# Altium footprint library Christmas Keychain.PcbLib: 4 footprints
Each footprint in its own frame and in the unit in brackets; x right, y up, seen from the top. Pads: shape width x height; smd on the part's side, far side on the other; paste and mask are expansions set on the pad; w line width, h text height; cw(c..) or ccw(c..) is an arc to the next point about the centre after c.
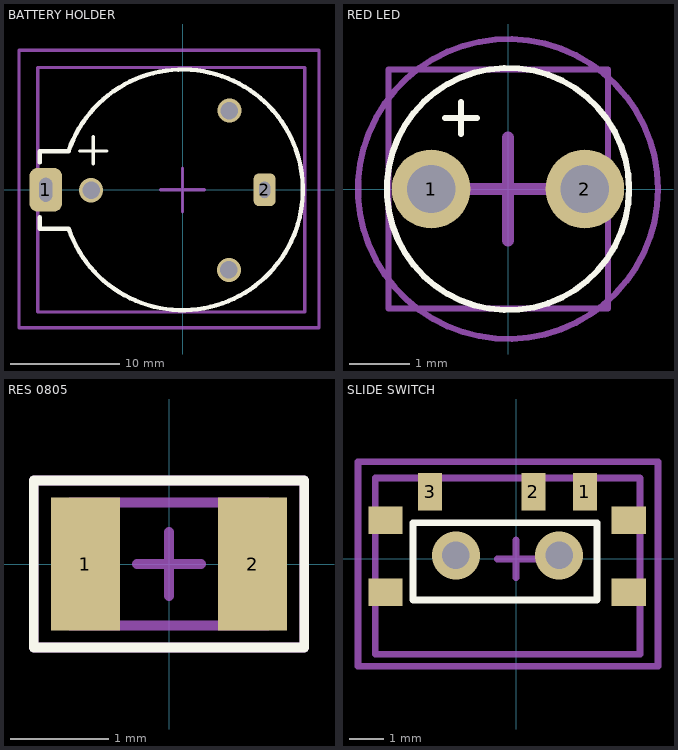
[diagram p0: the footprints below, top view; thin cyan lines are the x and y axes]

## BATTERY HOLDER [mm]
pads (2):
  rrect50% 3x4 hole 1.2 slot 2.2 at 90 deg: 1(-12.5,0)
  rrect50% 2x3 hole 1 slot 1.5 at 90 deg mask+0.102: 2(7.5,0)
via 4.239,-7.321 diameter 2.2 hole 1.6
via 4.275,7.25 diameter 2.2 hole 1.6
via -8.358,-0.037 diameter 2.2 hole 1.6
Top Overlay:
  lines w0.3: -9.4,3.55 -6.9,3.55 ; -8.175,2.375 -8.175,4.875
  lines w0.4: -13.05,-2.5 -13.05,-3.55 -10.405,-3.55 ; -13.045,2.5 -13.045,2.756 -13.045,3.269 -13.045,3.525 -10.4,3.525 ; -10.418,3.531 cw(c0,0) -10.405,-3.568
Top 3D Body:
  lines w0.3: -13.225,-11.175 -13.225,11.175 11.175,11.175 11.175,-11.175 -13.225,-11.175
Top Component Center:
  lines w0.3: -2,0 0,0 ; 0,-2 0,0 ; 0,2 0,0 ; 2,0 0,0 ; -14.95,-12.6 -14.95,12.75 -14.475,12.75 12.475,12.75 12.475,-12.6 -14.95,-12.6
Top Designator:
  lines w0.3: -14.95,-12.6 -14.95,12.75 12.475,12.75 12.475,-12.6 -14.95,-12.6
  text ".Designator" at -3.35,-2.267 h4
3D body "BS-7--3DModel-STEP-1.STEP": height 8.5, standoff -3.6, extent -13.175,-11.199 11.225,11.149

## RED LED [mm]
pads (2):
  round 1.3 hole 0.8 mask+0.102: 1(-1.27,0) 2(1.27,0)
Top Overlay:
  circle w0.1: c0,0 r2.002
  lines w0.1: -1.038,1.175 -0.513,1.175 ; -0.775,0.912 -0.775,1.437
Top 3D Body:
  lines w0.1: -1.975,-1.975 1.65,-1.975 1.65,1.975 -1.975,1.975 -1.975,-1.975
Top Component Center:
  circle w0.1: c0,0 r2.478
  lines w0.2: -0.85,0 0,0 ; 0,-0.85 0,0 ; 0,0.85 0,0 ; 0.85,0 0,0
Top Designator:
  circle w0.1: c0,0 r2.478
  text ".Designator" at -0.6,-0.317 h1
3D body "15103xxx.stp": height 5.3, standoff -26.4, extent -1.975,-1.963 1.645,1.963

## RES 0805 [mm]
pads (2):
  rect 0.7x1.35 smd mask+0.102: 1(-0.85,0) 2(0.85,0)
Top Overlay:
  lines w0.1: -1.375,-0.85 1.375,-0.85 1.375,0.85 -1.375,0.85 -1.375,-0.85
Top 3D Body:
  lines w0.1: -1,-0.625 -1,0.625 1,0.625 1,-0.625 -1,-0.625
Top Component Center:
  lines w0.1: -0.325,0 0,0 ; 0,-0.325 0,0 ; 0,0.325 0,0 ; 0.325,0 0,0 ; -1.375,-0.85 1.375,-0.85 1.375,0.85 -1.375,0.85 -1.375,-0.85
Top Designator:
  lines w0.1: -1.375,-0.85 1.375,-0.85 1.375,0.85 -1.375,0.85 -1.375,-0.85
  text ".Designator" at -0.45,-0.492 h1
3D body "RK73B2ATTD101J.STEP": height 0.6, standoff 0, extent -1,-0.625 1,0.625

## SLIDE SWITCH [mm]
pads (7):
  rect 0.7x1.1 smd mask+0.102: 1(2,1.95) 2(0.5,1.95) 3(-2.5,1.95)
  rect 1x0.8 smd mask+0.102: ""(-3.8,-0.975) ""(-3.8,1.125) ""(3.275,-0.975) ""(3.275,1.125)
via 1.25,0.1 diameter 1.4 hole 0.8
via -1.75,0.1 diameter 1.4 hole 0.8
Top Overlay:
  lines w0.2: -3,-1.2 2.35,-1.2 2.35,1.05 -3,1.05 -3,-1.2
Top 3D Body:
  lines w0.2: -4.1,-2.775 -4.1,2.35 3.6,2.35 3.6,-2.775 -4.1,-2.775
Top Component Center:
  lines w0.2: -0.55,0 0,0 ; 0,-0.55 0,0 ; 0,0.55 0,0 ; 0.55,0 0,0 ; -4.6,-3.125 -4.6,2.825 4.125,2.825 4.125,-3.125 -4.6,-3.125
Top Designator:
  lines w0.2: -4.6,-3.125 -4.6,2.825 4.125,2.825 4.125,-3.125 -4.6,-3.125
  text ".Designator" at -1.7,-1.484 h2
3D body "Download_STP_450404015514_rev1.stp": height 1.4, standoff -0.5, extent -4.1,-2.75 3.6,2.38